# EAGLE library part USB-C-DIRECT (library ytani1)
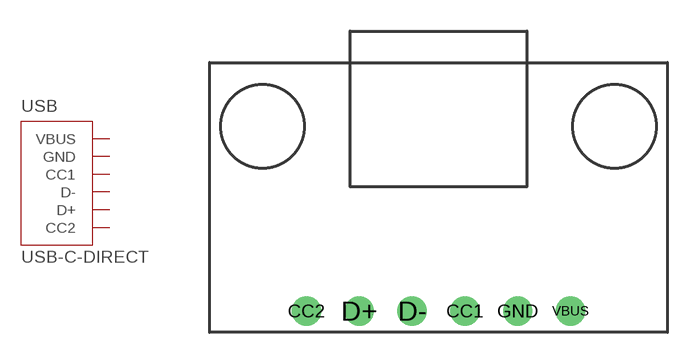
[diagram p12: symbol with the pads of USB-C-DIRECT; footprint USB-C-DIRECT]

Designator prefix USB

## USB-C-DIRECT  [USB-C-DIRECT]
CC1  CC1
CC2  CC2
D+  D+
D-  D-
GND  GND
VBUS  VBUS

## Footprint USB-C-DIRECT (pad centres in mm)
drill 0.9: CC1 1.27,-13.97; CC2 -6.35,-13.97; D+ -3.81,-13.97; D- -1.27,-13.97; GND 3.81,-13.97; VBUS 6.35,-13.97